# EAGLE library part 6SLX45 (library pandaLight)
Xilinx FPGA: 6SLX45CSG324
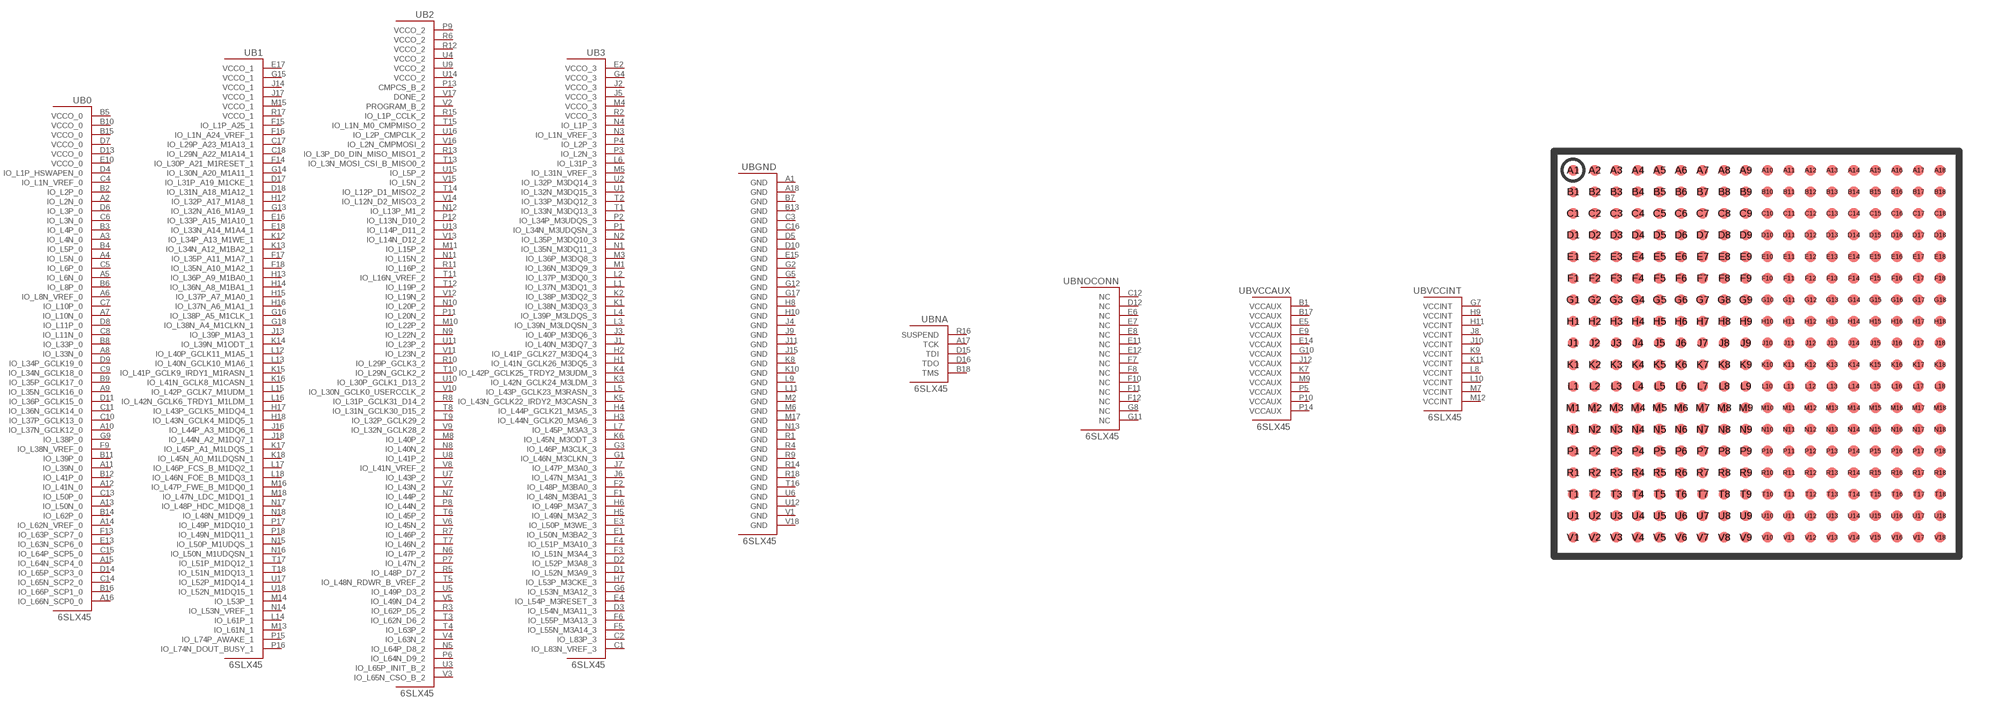
[diagram p0: symbol with the pads of CS324; footprint CS324]

Designator prefix U; gates B0=6SLX45CSG324_0 B1=6SLX45CSG324_1 B2=6SLX45CSG324_2 B3=6SLX45CSG324_3 BGND=6SLX45CSG324_GND BNA=6SLX45CSG324_NA BNOCONN=6SLX45CSG324_NOCONN BVCCAUX=6SLX45CSG324_VCCAUX BVCCINT=6SLX45CSG324_VCCINT

## 6SLX45CSG324  [CS324]
A1  BGND:GND  pwr
A2  B0:IO_L2N_0
A3  B0:IO_L4N_0
A4  B0:IO_L5N_0
A5  B0:IO_L6N_0
A6  B0:IO_L8N_VREF_0
A7  B0:IO_L10N_0
A8  B0:IO_L33N_0
A9  B0:IO_L35N_GCLK16_0
A10  B0:IO_L37N_GCLK12_0
A11  B0:IO_L39N_0
A12  B0:IO_L41N_0
A13  B0:IO_L50N_0
A14  B0:IO_L62N_VREF_0
A15  B0:IO_L64N_SCP4_0
A16  B0:IO_L66N_SCP0_0
A17  BNA:TCK  in
A18  BGND:GND  pwr
B1  BVCCAUX:VCCAUX  in
B2  B0:IO_L2P_0
B3  B0:IO_L4P_0
B4  B0:IO_L5P_0
B5  B0:VCCO_0  in
B6  B0:IO_L8P_0
B7  BGND:GND  pwr
B8  B0:IO_L33P_0
B9  B0:IO_L35P_GCLK17_0
B10  B0:VCCO_0  in
B11  B0:IO_L39P_0
B12  B0:IO_L41P_0
B13  BGND:GND  pwr
B14  B0:IO_L62P_0
B15  B0:VCCO_0  in
B16  B0:IO_L66P_SCP1_0
B17  BVCCAUX:VCCAUX  in
B18  BNA:TMS  in
C1  B3:IO_L83N_VREF_3
C2  B3:IO_L83P_3
C3  BGND:GND  pwr
C4  B0:IO_L1N_VREF_0
C5  B0:IO_L6P_0
C6  B0:IO_L3N_0
C7  B0:IO_L10P_0
C8  B0:IO_L11N_0
C9  B0:IO_L34N_GCLK18_0
C10  B0:IO_L37P_GCLK13_0
C11  B0:IO_L36N_GCLK14_0
C12  BNOCONN:NC  pas
C13  B0:IO_L50P_0
C14  B0:IO_L65N_SCP2_0
C15  B0:IO_L64P_SCP5_0
C16  BGND:GND  pwr
C17  B1:IO_L29P_A23_M1A13_1
C18  B1:IO_L29N_A22_M1A14_1
D1  B3:IO_L52N_M3A9_3
D2  B3:IO_L52P_M3A8_3
D3  B3:IO_L54N_M3A11_3
D4  B0:IO_L1P_HSWAPEN_0
D5  BGND:GND  pwr
D6  B0:IO_L3P_0
D7  B0:VCCO_0  in
D8  B0:IO_L11P_0
D9  B0:IO_L34P_GCLK19_0
D10  BGND:GND  pwr
D11  B0:IO_L36P_GCLK15_0
D12  BNOCONN:NC  pas
D13  B0:VCCO_0  in
D14  B0:IO_L65P_SCP3_0
D15  BNA:TDI  in
D16  BNA:TDO  out
D17  B1:IO_L31P_A19_M1CKE_1
D18  B1:IO_L31N_A18_M1A12_1
E1  B3:IO_L50N_M3BA2_3
E2  B3:VCCO_3  in
E3  B3:IO_L50P_M3WE_3
E4  B3:IO_L54P_M3RESET_3
E5  BVCCAUX:VCCAUX  in
E6  BNOCONN:NC  pas
E7  BNOCONN:NC  pas
E8  BNOCONN:NC  pas
E9  BVCCAUX:VCCAUX  in
E10  B0:VCCO_0  in
E11  BNOCONN:NC  pas
E12  BNOCONN:NC  pas
E13  B0:IO_L63N_SCP6_0
E14  BVCCAUX:VCCAUX  in
E15  BGND:GND  pwr
E16  B1:IO_L33P_A15_M1A10_1
E17  B1:VCCO_1  in
E18  B1:IO_L33N_A14_M1A4_1
F1  B3:IO_L48N_M3BA1_3
F2  B3:IO_L48P_M3BA0_3
F3  B3:IO_L51N_M3A4_3
F4  B3:IO_L51P_M3A10_3
F5  B3:IO_L55N_M3A14_3
F6  B3:IO_L55P_M3A13_3
F7  BNOCONN:NC  pas
F8  BNOCONN:NC  pas
F9  B0:IO_L38N_VREF_0
F10  BNOCONN:NC  pas
F11  BNOCONN:NC  pas
F12  BNOCONN:NC  pas
F13  B0:IO_L63P_SCP7_0
F14  B1:IO_L30P_A21_M1RESET_1
F15  B1:IO_L1P_A25_1
F16  B1:IO_L1N_A24_VREF_1
F17  B1:IO_L35P_A11_M1A7_1
F18  B1:IO_L35N_A10_M1A2_1
G1  B3:IO_L46N_M3CLKN_3
G2  BGND:GND  pwr
G3  B3:IO_L46P_M3CLK_3
G4  B3:VCCO_3  in
G5  BGND:GND  pwr
G6  B3:IO_L53N_M3A12_3
G7  BVCCINT:VCCINT  in
G8  BNOCONN:NC  pas
G9  B0:IO_L38P_0
G10  BVCCAUX:VCCAUX  in
G11  BNOCONN:NC  pas
G12  BGND:GND  pwr
G13  B1:IO_L32N_A16_M1A9_1
G14  B1:IO_L30N_A20_M1A11_1
G15  B1:VCCO_1  in
G16  B1:IO_L38P_A5_M1CLK_1
G17  BGND:GND  pwr
G18  B1:IO_L38N_A4_M1CLKN_1
H1  B3:IO_L41N_GCLK26_M3DQ5_3
H2  B3:IO_L41P_GCLK27_M3DQ4_3
H3  B3:IO_L44N_GCLK20_M3A6_3
H4  B3:IO_L44P_GCLK21_M3A5_3
H5  B3:IO_L49N_M3A2_3
H6  B3:IO_L49P_M3A7_3
H7  B3:IO_L53P_M3CKE_3
H8  BGND:GND  pwr
H9  BVCCINT:VCCINT  in
H10  BGND:GND  pwr
H11  BVCCINT:VCCINT  in
H12  B1:IO_L32P_A17_M1A8_1
H13  B1:IO_L36P_A9_M1BA0_1
H14  B1:IO_L36N_A8_M1BA1_1
H15  B1:IO_L37P_A7_M1A0_1
H16  B1:IO_L37N_A6_M1A1_1
H17  B1:IO_L43P_GCLK5_M1DQ4_1
H18  B1:IO_L43N_GCLK4_M1DQ5_1
J1  B3:IO_L40N_M3DQ7_3
J2  B3:VCCO_3  in
J3  B3:IO_L40P_M3DQ6_3
J4  BGND:GND  pwr
J5  B3:VCCO_3  in
J6  B3:IO_L47N_M3A1_3
J7  B3:IO_L47P_M3A0_3
J8  BVCCINT:VCCINT  in
J9  BGND:GND  pwr
J10  BVCCINT:VCCINT  in
J11  BGND:GND  pwr
J12  BVCCAUX:VCCAUX  in
J13  B1:IO_L39P_M1A3_1
J14  B1:VCCO_1  in
J15  BGND:GND  pwr
J16  B1:IO_L44P_A3_M1DQ6_1
J17  B1:VCCO_1  in
J18  B1:IO_L44N_A2_M1DQ7_1
K1  B3:IO_L38N_M3DQ3_3
K2  B3:IO_L38P_M3DQ2_3
K3  B3:IO_L42N_GCLK24_M3LDM_3
K4  B3:IO_L42P_GCLK25_TRDY2_M3UDM_3
K5  B3:IO_L43N_GCLK22_IRDY2_M3CASN_3
K6  B3:IO_L45N_M3ODT_3
K7  BVCCAUX:VCCAUX  in
K8  BGND:GND  pwr
K9  BVCCINT:VCCINT  in
K10  BGND:GND  pwr
K11  BVCCINT:VCCINT  in
K12  B1:IO_L34P_A13_M1WE_1
K13  B1:IO_L34N_A12_M1BA2_1
K14  B1:IO_L39N_M1ODT_1
K15  B1:IO_L41P_GCLK9_IRDY1_M1RASN_1
K16  B1:IO_L41N_GCLK8_M1CASN_1
K17  B1:IO_L45P_A1_M1LDQS_1
K18  B1:IO_L45N_A0_M1LDQSN_1
L1  B3:IO_L37N_M3DQ1_3
L2  B3:IO_L37P_M3DQ0_3
L3  B3:IO_L39N_M3LDQSN_3
L4  B3:IO_L39P_M3LDQS_3
L5  B3:IO_L43P_GCLK23_M3RASN_3
L6  B3:IO_L31P_3
L7  B3:IO_L45P_M3A3_3
L8  BVCCINT:VCCINT  in
L9  BGND:GND  pwr
L10  BVCCINT:VCCINT  in
L11  BGND:GND  pwr
L12  B1:IO_L40P_GCLK11_M1A5_1
L13  B1:IO_L40N_GCLK10_M1A6_1
L14  B1:IO_L61P_1
L15  B1:IO_L42P_GCLK7_M1UDM_1
L16  B1:IO_L42N_GCLK6_TRDY1_M1LDM_1
L17  B1:IO_L46P_FCS_B_M1DQ2_1
L18  B1:IO_L46N_FOE_B_M1DQ3_1
M1  B3:IO_L36N_M3DQ9_3
M2  BGND:GND  pwr
M3  B3:IO_L36P_M3DQ8_3
M4  B3:VCCO_3  in
M5  B3:IO_L31N_VREF_3
M6  BGND:GND  pwr
M7  BVCCINT:VCCINT  in
M8  B2:IO_L40P_2
M9  BVCCAUX:VCCAUX  in
M10  B2:IO_L22P_2
M11  B2:IO_L15P_2
M12  BVCCINT:VCCINT  in
M13  B1:IO_L61N_1
M14  B1:IO_L53P_1
M15  B1:VCCO_1  in
M16  B1:IO_L47P_FWE_B_M1DQ0_1
M17  BGND:GND  pwr
M18  B1:IO_L47N_LDC_M1DQ1_1
N1  B3:IO_L35N_M3DQ11_3
N2  B3:IO_L35P_M3DQ10_3
N3  B3:IO_L1N_VREF_3
N4  B3:IO_L1P_3
N5  B2:IO_L64P_D8_2
N6  B2:IO_L47P_2
N7  B2:IO_L44P_2
N8  B2:IO_L40N_2
N9  B2:IO_L22N_2
N10  B2:IO_L20P_2
N11  B2:IO_L15N_2
N12  B2:IO_L13P_M1_2
N13  BGND:GND  pwr
N14  B1:IO_L53N_VREF_1
N15  B1:IO_L50P_M1UDQS_1
N16  B1:IO_L50N_M1UDQSN_1
N17  B1:IO_L48P_HDC_M1DQ8_1
N18  B1:IO_L48N_M1DQ9_1
P1  B3:IO_L34N_M3UDQSN_3
P2  B3:IO_L34P_M3UDQS_3
P3  B3:IO_L2N_3
P4  B3:IO_L2P_3
P5  BVCCAUX:VCCAUX  in
P6  B2:IO_L64N_D9_2
P7  B2:IO_L47N_2
P8  B2:IO_L44N_2
P9  B2:VCCO_2  in
P10  BVCCAUX:VCCAUX  in
P11  B2:IO_L20N_2
P12  B2:IO_L13N_D10_2
P13  B2:CMPCS_B_2
P14  BVCCAUX:VCCAUX  in
P15  B1:IO_L74P_AWAKE_1
P16  B1:IO_L74N_DOUT_BUSY_1
P17  B1:IO_L49P_M1DQ10_1
P18  B1:IO_L49N_M1DQ11_1
R1  BGND:GND  pwr
R2  B3:VCCO_3  in
R3  B2:IO_L62P_D5_2
R4  BGND:GND  pwr
R5  B2:IO_L48P_D7_2
R6  B2:VCCO_2  in
R7  B2:IO_L46P_2
R8  B2:IO_L31P_GCLK31_D14_2
R9  BGND:GND  pwr
R10  B2:IO_L29P_GCLK3_2
R11  B2:IO_L16P_2
R12  B2:VCCO_2  in
R13  B2:IO_L3P_D0_DIN_MISO_MISO1_2
R14  BGND:GND  pwr
R15  B2:IO_L1P_CCLK_2
R16  BNA:SUSPEND  in
R17  B1:VCCO_1  in
R18  BGND:GND  pwr
T1  B3:IO_L33N_M3DQ13_3
T2  B3:IO_L33P_M3DQ12_3
T3  B2:IO_L62N_D6_2
T4  B2:IO_L63P_2
T5  B2:IO_L48N_RDWR_B_VREF_2
T6  B2:IO_L45P_2
T7  B2:IO_L46N_2
T8  B2:IO_L31N_GCLK30_D15_2
T9  B2:IO_L32P_GCLK29_2
T10  B2:IO_L29N_GCLK2_2
T11  B2:IO_L16N_VREF_2
T12  B2:IO_L19P_2
T13  B2:IO_L3N_MOSI_CSI_B_MISO0_2
T14  B2:IO_L12P_D1_MISO2_2
T15  B2:IO_L1N_M0_CMPMISO_2
T16  BGND:GND  pwr
T17  B1:IO_L51P_M1DQ12_1
T18  B1:IO_L51N_M1DQ13_1
U1  B3:IO_L32N_M3DQ15_3
U2  B3:IO_L32P_M3DQ14_3
U3  B2:IO_L65P_INIT_B_2
U4  B2:VCCO_2  in
U5  B2:IO_L49P_D3_2
U6  BGND:GND  pwr
U7  B2:IO_L43P_2
U8  B2:IO_L41P_2
U9  B2:VCCO_2  in
U10  B2:IO_L30P_GCLK1_D13_2
U11  B2:IO_L23P_2
U12  BGND:GND  pwr
U13  B2:IO_L14P_D11_2
U14  B2:VCCO_2  in
U15  B2:IO_L5P_2
U16  B2:IO_L2P_CMPCLK_2
U17  B1:IO_L52P_M1DQ14_1
U18  B1:IO_L52N_M1DQ15_1
V1  BGND:GND  pwr
V2  B2:PROGRAM_B_2  in
V3  B2:IO_L65N_CSO_B_2
V4  B2:IO_L63N_2
V5  B2:IO_L49N_D4_2
V6  B2:IO_L45N_2
V7  B2:IO_L43N_2
V8  B2:IO_L41N_VREF_2
V9  B2:IO_L32N_GCLK28_2
V10  B2:IO_L30N_GCLK0_USERCCLK_2
V11  B2:IO_L23N_2
V12  B2:IO_L19N_2
V13  B2:IO_L14N_D12_2
V14  B2:IO_L12N_D2_MISO3_2
V15  B2:IO_L5N_2
V16  B2:IO_L2N_CMPMOSI_2
V17  B2:DONE_2
V18  BGND:GND  pwr

## Footprint CS324 (pad centres in mm)
CS324 CSG324 SBG324
smd 0.4 x 0.4: A1 -6.8,6.8; A2 -6,6.8; A3 -5.2,6.8; A4 -4.4,6.8; A5 -3.6,6.8; A6 -2.8,6.8; A7 -2,6.8; A8 -1.2,6.8; A9 -0.4,6.8; A10 0.4,6.8; A11 1.2,6.8; A12 2,6.8; A13 2.8,6.8; A14 3.6,6.8; A15 4.4,6.8; A16 5.2,6.8; A17 6,6.8; A18 6.8,6.8; B1 -6.8,6; B2 -6,6; B3 -5.2,6; B4 -4.4,6; B5 -3.6,6; B6 -2.8,6; B7 -2,6; B8 -1.2,6; B9 -0.4,6; B10 0.4,6; B11 1.2,6; B12 2,6; B13 2.8,6; B14 3.6,6; B15 4.4,6; B16 5.2,6; B17 6,6; B18 6.8,6; C1 -6.8,5.2; C2 -6,5.2; C3 -5.2,5.2; C4 -4.4,5.2; C5 -3.6,5.2; C6 -2.8,5.2; C7 -2,5.2; C8 -1.2,5.2; C9 -0.4,5.2; C10 0.4,5.2; C11 1.2,5.2; C12 2,5.2; C13 2.8,5.2; C14 3.6,5.2; C15 4.4,5.2; C16 5.2,5.2; C17 6,5.2; C18 6.8,5.2; D1 -6.8,4.4; D2 -6,4.4; D3 -5.2,4.4; D4 -4.4,4.4; D5 -3.6,4.4; D6 -2.8,4.4; D7 -2,4.4; D8 -1.2,4.4; D9 -0.4,4.4; D10 0.4,4.4; D11 1.2,4.4; D12 2,4.4; D13 2.8,4.4; D14 3.6,4.4; D15 4.4,4.4; D16 5.2,4.4; D17 6,4.4; D18 6.8,4.4; E1 -6.8,3.6; E2 -6,3.6; E3 -5.2,3.6; E4 -4.4,3.6; E5 -3.6,3.6; E6 -2.8,3.6; E7 -2,3.6; E8 -1.2,3.6; E9 -0.4,3.6; E10 0.4,3.6; E11 1.2,3.6; E12 2,3.6; E13 2.8,3.6; E14 3.6,3.6; E15 4.4,3.6; E16 5.2,3.6; E17 6,3.6; E18 6.8,3.6; F1 -6.8,2.8; F2 -6,2.8; F3 -5.2,2.8; F4 -4.4,2.8; F5 -3.6,2.8; F6 -2.8,2.8; F7 -2,2.8; F8 -1.2,2.8; F9 -0.4,2.8; F10 0.4,2.8; F11 1.2,2.8; F12 2,2.8; F13 2.8,2.8; F14 3.6,2.8; F15 4.4,2.8; F16 5.2,2.8; F17 6,2.8; F18 6.8,2.8; G1 -6.8,2; G2 -6,2; G3 -5.2,2; G4 -4.4,2; G5 -3.6,2; G6 -2.8,2; G7 -2,2; G8 -1.2,2; G9 -0.4,2; G10 0.4,2; G11 1.2,2; G12 2,2; G13 2.8,2; G14 3.6,2; G15 4.4,2; G16 5.2,2; G17 6,2; G18 6.8,2; H1 -6.8,1.2; H2 -6,1.2; H3 -5.2,1.2; H4 -4.4,1.2; H5 -3.6,1.2; H6 -2.8,1.2; H7 -2,1.2; H8 -1.2,1.2; H9 -0.4,1.2; H10 0.4,1.2; H11 1.2,1.2; H12 2,1.2; H13 2.8,1.2; H14 3.6,1.2; H15 4.4,1.2; H16 5.2,1.2; H17 6,1.2; H18 6.8,1.2; J1 -6.8,0.4; J2 -6,0.4; J3 -5.2,0.4; J4 -4.4,0.4; J5 -3.6,0.4; J6 -2.8,0.4; J7 -2,0.4; J8 -1.2,0.4; J9 -0.4,0.4; J10 0.4,0.4; J11 1.2,0.4; J12 2,0.4; J13 2.8,0.4; J14 3.6,0.4; J15 4.4,0.4; J16 5.2,0.4; J17 6,0.4; J18 6.8,0.4; K1 -6.8,-0.4; K2 -6,-0.4; K3 -5.2,-0.4; K4 -4.4,-0.4; K5 -3.6,-0.4; K6 -2.8,-0.4; K7 -2,-0.4; K8 -1.2,-0.4; K9 -0.4,-0.4; K10 0.4,-0.4; K11 1.2,-0.4; K12 2,-0.4; K13 2.8,-0.4; K14 3.6,-0.4; K15 4.4,-0.4; K16 5.2,-0.4; K17 6,-0.4; K18 6.8,-0.4; L1 -6.8,-1.2; L2 -6,-1.2; L3 -5.2,-1.2; L4 -4.4,-1.2; L5 -3.6,-1.2; L6 -2.8,-1.2; L7 -2,-1.2; L8 -1.2,-1.2; L9 -0.4,-1.2; L10 0.4,-1.2; L11 1.2,-1.2; L12 2,-1.2; L13 2.8,-1.2; L14 3.6,-1.2; L15 4.4,-1.2; L16 5.2,-1.2; L17 6,-1.2; L18 6.8,-1.2; M1 -6.8,-2; M2 -6,-2; M3 -5.2,-2; M4 -4.4,-2; M5 -3.6,-2; M6 -2.8,-2; M7 -2,-2; M8 -1.2,-2; M9 -0.4,-2; M10 0.4,-2; M11 1.2,-2; M12 2,-2; M13 2.8,-2; M14 3.6,-2; M15 4.4,-2; M16 5.2,-2; M17 6,-2; M18 6.8,-2; N1 -6.8,-2.8; N2 -6,-2.8; N3 -5.2,-2.8; N4 -4.4,-2.8; N5 -3.6,-2.8; N6 -2.8,-2.8; N7 -2,-2.8; N8 -1.2,-2.8; N9 -0.4,-2.8; N10 0.4,-2.8; N11 1.2,-2.8; N12 2,-2.8; N13 2.8,-2.8; N14 3.6,-2.8; N15 4.4,-2.8; N16 5.2,-2.8; N17 6,-2.8; N18 6.8,-2.8; P1 -6.8,-3.6; P2 -6,-3.6; P3 -5.2,-3.6; P4 -4.4,-3.6; P5 -3.6,-3.6; P6 -2.8,-3.6; P7 -2,-3.6; P8 -1.2,-3.6; P9 -0.4,-3.6; P10 0.4,-3.6; P11 1.2,-3.6; P12 2,-3.6; P13 2.8,-3.6; P14 3.6,-3.6; P15 4.4,-3.6; P16 5.2,-3.6; P17 6,-3.6; P18 6.8,-3.6; R1 -6.8,-4.4; R2 -6,-4.4; R3 -5.2,-4.4; R4 -4.4,-4.4; R5 -3.6,-4.4; R6 -2.8,-4.4; R7 -2,-4.4; R8 -1.2,-4.4; R9 -0.4,-4.4; R10 0.4,-4.4; R11 1.2,-4.4; R12 2,-4.4; R13 2.8,-4.4; R14 3.6,-4.4; R15 4.4,-4.4; R16 5.2,-4.4; R17 6,-4.4; R18 6.8,-4.4; T1 -6.8,-5.2; T2 -6,-5.2; T3 -5.2,-5.2; T4 -4.4,-5.2; T5 -3.6,-5.2; T6 -2.8,-5.2; T7 -2,-5.2; T8 -1.2,-5.2; T9 -0.4,-5.2; T10 0.4,-5.2; T11 1.2,-5.2; T12 2,-5.2; T13 2.8,-5.2; T14 3.6,-5.2; T15 4.4,-5.2; T16 5.2,-5.2; T17 6,-5.2; T18 6.8,-5.2; U1 -6.8,-6; U2 -6,-6; U3 -5.2,-6; U4 -4.4,-6; U5 -3.6,-6; U6 -2.8,-6; U7 -2,-6; U8 -1.2,-6; U9 -0.4,-6; U10 0.4,-6; U11 1.2,-6; U12 2,-6; U13 2.8,-6; U14 3.6,-6; U15 4.4,-6; U16 5.2,-6; U17 6,-6; U18 6.8,-6; V1 -6.8,-6.8; V2 -6,-6.8; V3 -5.2,-6.8; V4 -4.4,-6.8; V5 -3.6,-6.8; V6 -2.8,-6.8; V7 -2,-6.8; V8 -1.2,-6.8; V9 -0.4,-6.8; V10 0.4,-6.8; V11 1.2,-6.8; V12 2,-6.8; V13 2.8,-6.8; V14 3.6,-6.8; V15 4.4,-6.8; V16 5.2,-6.8; V17 6,-6.8; V18 6.8,-6.8